# Altium schematic symbol library componentes_especificos.SchLib: 1 symbol
Pins are listed as number, name and electrical type; pins without a type are passive.

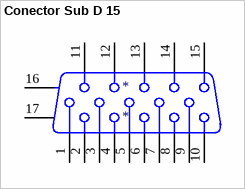
[diagram p0: symbol Conector Sub D 15]

## Conector Sub D 15
designator *
footprint Conector Sub d15
pins: 1, 2, 3, 4, 5, 6, 7, 8, 9, 10, 11, 12, 13, 14, 15, 16 MH1, 17 MH2